# Altium schematic symbol library ZXLD383ET5TA.SchLib: 2 symbols
Pins are listed as number, name and electrical type; pins without a type are passive.

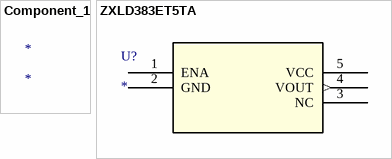
[diagram p0: symbols Component_1 to ZXLD383ET5TA]

## Component_1
designator *

## ZXLD383ET5TA
designator U?
No Description Available; Mfr_Name: Diodes Inc; RefDes: RefDes; Type: Type
footprint TSOT23-5_ZXLD383_DIO
pins: 1 ENA, 2 GND (power), 3 NC, 4 VOUT (out), 5 VCC (power)